# EAGLE library part STEWART_CONNECTOR_SI-52008-F (library Stewart Connector - SI-52008-F)
Modular Connectors / Ethernet Connectors RJ45 Connector
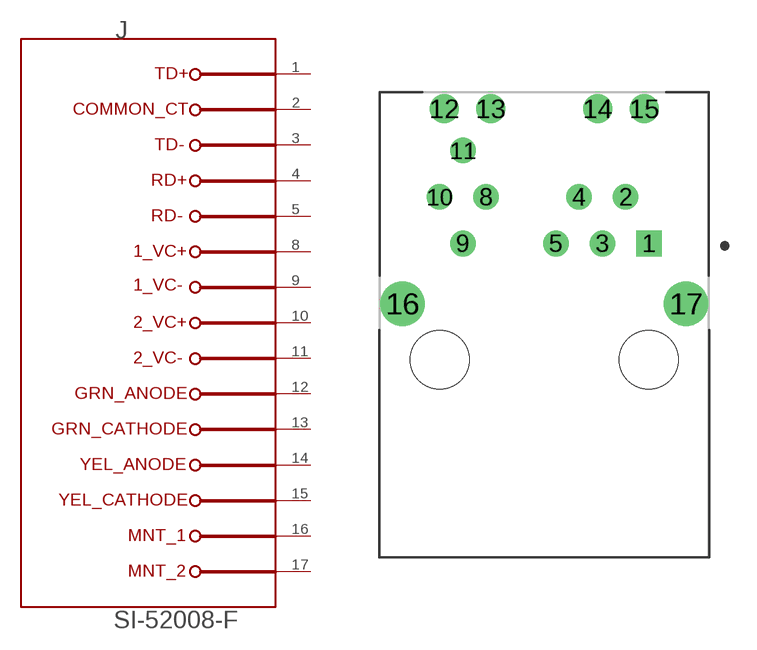
[diagram p0: symbol with the pads of STEWART_CONNECTOR_SI-52008-F_0; footprint STEWART_CONNECTOR_SI-52008-F_0]

Designator prefix J

## STEWART_CONNECTOR_SI-52008-FSTEWART_CONNECTOR_SI-52008-F_0_0 (CENTROID_NOT_SPECIFIED: No; DATASHEET: https://belfuse.com/resources/StewartConnector/SI-52008-F.pdf; DIGIKEY_DESCRIPTION: CONN MAGJACK 1PORT 100 BASE-T; DIGIKEY_PART_NUMBER: SI-52008-F-ND; LEAD_FREE: yes; MF: Stewart Connector; MOUSER_PART_NUMBER: 530-SI-52008-F; MPN: SI-52008-F; PACKAGE: CONN_PTH_JACK; PREFIX: J; ROHS: yes)  [STEWART_CONNECTOR_SI-52008-F_0]
1  TD+
2  COMMON_CT
3  TD-
4  RD+
5  RD-
8  1_VC+
9  1_VC-
10  2_VC+
11  2_VC-
12  GRN_ANODE
13  GRN_CATHODE
14  YEL_ANODE
15  YEL_CATHODE
16  MNT_1
17  MNT_2

## Footprint STEWART_CONNECTOR_SI-52008-F_0 (pad centres in mm)
Modular Connectors / Ethernet Connectors RJ45 Connector
drill 0.89 pad 1.39 square: 1 5.715,4.44
drill 0.89 pad 1.39: 2 4.445,6.98; 3 3.175,4.44; 4 1.905,6.98; 5 0.635,4.44; 8 -3.175,6.98; 9 -4.445,4.44; 10 -5.715,6.98; 11 -4.445,9.52
drill 1.02 pad 1.57: 12 -5.465,11.81; 13 -2.925,11.81; 14 2.925,11.81; 15 5.465,11.81
drill 1.57 pad 2.42: 16 -7.745,1.14; 17 7.745,1.14
hole 3.215 at -5.715,-1.91
hole 3.215 at 5.715,-1.91